# Altium footprint library LC-TSOP%28II%29-54.PcbLib: 1 footprints
Each footprint in its own frame and in the unit in brackets; x right, y up, seen from the top. Pads: shape width x height; smd on the part's side, far side on the other; paste and mask are expansions set on the pad; w line width, h text height; cw(c..) or ccw(c..) is an arc to the next point about the centre after c.
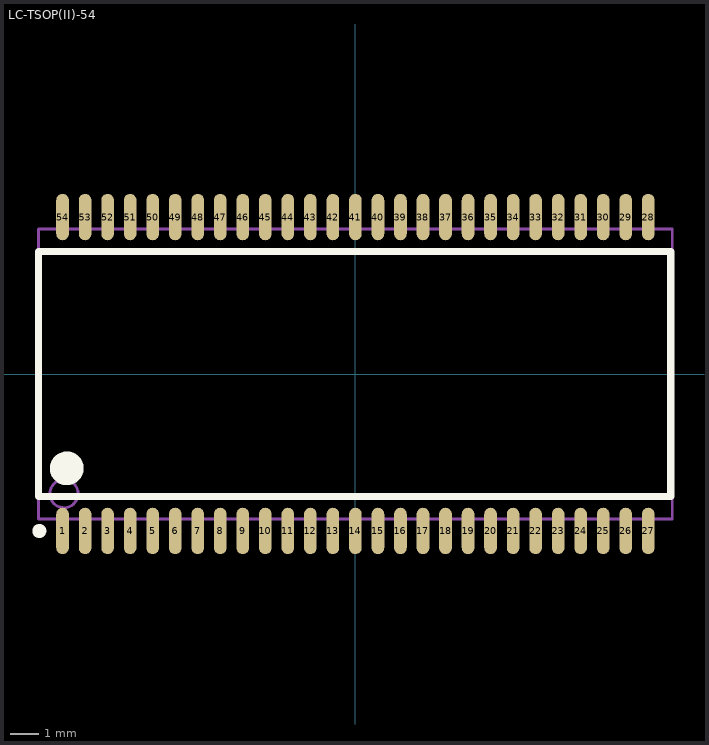
[diagram p0: the footprint, top view; thin cyan lines are the x and y axes]

## LC-TSOP(II)-54 [mm]
pads (54):
  oval 0.45x1.65 smd: 1(-10.4,-5.575) 2(-9.6,-5.575) 3(-8.8,-5.575) 4(-8,-5.575) 5(-7.2,-5.575) 6(-6.4,-5.575) 7(-5.6,-5.575) 8(-4.8,-5.575) 9(-4,-5.575) 10(-3.2,-5.575) 11(-2.4,-5.575) 12(-1.6,-5.575) 13(-0.8,-5.575) 14(0,-5.575) 15(0.8,-5.575) 16(1.6,-5.575) 17(2.4,-5.575) 18(3.2,-5.575) 19(4,-5.575) 20(4.8,-5.575) 21(5.6,-5.575) 22(6.4,-5.575) 23(7.2,-5.575) 24(8,-5.575) 25(8.8,-5.575) 26(9.6,-5.575) 27(10.4,-5.575) 28(10.4,5.575) 29(9.6,5.575) 30(8.8,5.575) 31(8,5.575) 32(7.2,5.575) 33(6.4,5.575) 34(5.6,5.575) 35(4.8,5.575) 36(4,5.575) 37(3.2,5.575) 38(2.4,5.575) 39(1.6,5.575) 40(0.8,5.575) 41(0,5.575) 42(-0.8,5.575) 43(-1.6,5.575) 44(-2.4,5.575) 45(-3.2,5.575) 46(-4,5.575) 47(-4.8,5.575) 48(-5.6,5.575) 49(-6.4,5.575) 50(-7.2,5.575) 51(-8,5.575) 52(-8.8,5.575) 53(-9.6,5.575) 54(-10.4,5.575)
Top Overlay:
  circle w0.6: c-10.25,-3.35 r0.3
  circle w0.25: c-11.225,-5.575 r0.125
  lines w0.254: -11.25,-4.35 -11.25,4.35 11.2,4.35 11.2,-4.35 -11.25,-4.35
Mechanical 13:
  circle w0.1: c-10.35,-4.25 r0.5
  lines w0.1: -11.25,-5.15 -11.25,5.15 11.25,5.15 11.25,-5.15 -11.25,-5.15